# EAGLE library part INA170 (library crw)
High-Side, Bidirectional CURRENT SHUNT MONITOR
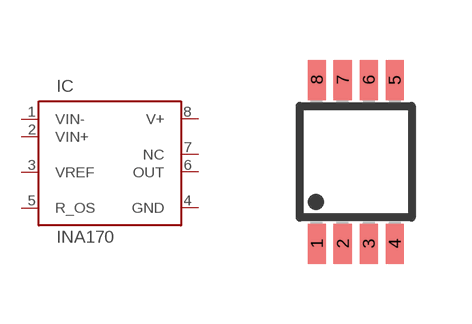
[diagram p3: symbol with the pads of MSOP8; footprint MSOP8]

Designator prefix IC

## INA170  [MSOP8]
1  VIN-  pas
2  VIN+  pas
3  VREF  in
4  GND  pwr
5  R_OS  in
6  OUT  pas
7  NC  pas
8  V+  in

## Footprint MSOP8 (pad centres in mm)
Micro Small Outline Package
smd 0.45 x 1: 1 -0.975,-2.05; 2 -0.325,-2.05; 3 0.325,-2.05; 4 0.975,-2.05; 5 0.975,2.05; 6 0.325,2.05; 7 -0.325,2.05; 8 -0.975,2.05